# Altium schematic symbol library CON_Vertical 5X2_Ribbon.SchLib: 1 symbol
Pins are listed as number, name and electrical type; pins without a type are passive.

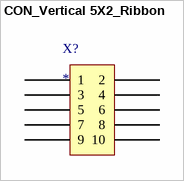
[diagram p0: symbol CON_Vertical 5X2_Ribbon]

## CON_Vertical 5X2_Ribbon
designator X?
10 Pin Ribbon Connector
footprint CON_Vertical 5X2_Ribbon (Ribbon Connector)
pins: 1, 2, 3, 4, 5, 6, 7, 8, 9, 10